# Altium schematic symbol library SCH - POWER - SWITCHMODE - TI TPS65253RHD.SchLib: 1 symbol
Pins are listed as number, name and electrical type; pins without a type are passive.

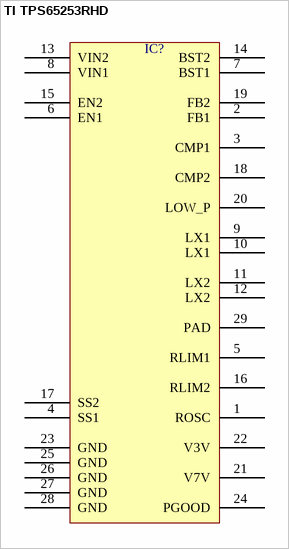
[diagram p0: symbol TI TPS65253RHD]

## TI TPS65253RHD
designator IC?  (value not drawn)
pins: 1 ROSC, 2 FB1, 3 CMP1, 4 SS1, 5 RLIM1, 6 EN1, 7 BST1, 8 VIN1, 9 LX1, 10 LX1, 11 LX2, 12 LX2, 13 VIN2, 14 BST2, 15 EN2, 16 RLIM2, 17 SS2, 18 CMP2, 19 FB2, 20 LOW_P, 21 V7V, 22 V3V, 23 GND, 24 PGOOD, 25 GND, 26 GND, 27 GND, 28 GND, 29 PAD